# Altium footprint library Транзисторы_демо.PcbLib: 1 footprints
Each footprint in its own frame and in the unit in brackets; x right, y up, seen from the top. Pads: shape width x height; smd on the part's side, far side on the other; paste and mask are expansions set on the pad; w line width, h text height; cw(c..) or ccw(c..) is an arc to the next point about the centre after c.
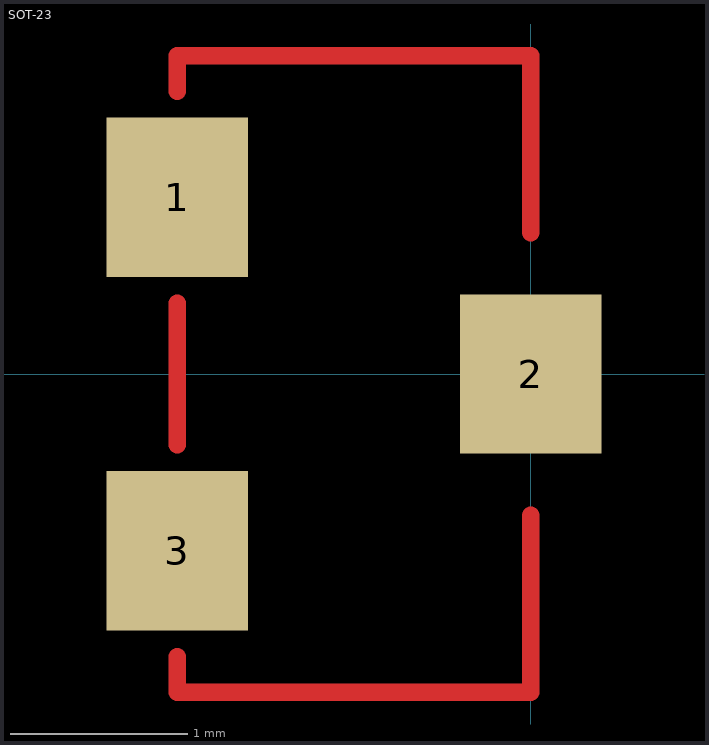
[diagram p0: the footprint, top view; thin cyan lines are the x and y axes]

## SOT-23 [mm]
pads (3):
  rect 0.8x0.9 smd: 1(-2,1) 2(0,0) 3(-2,-1)
Top Layer:
  lines w0.1: -2,-1.6 -2,-1.8 0,-1.8 0,-0.8 ; -2,-0.4 -2,0.4 ; -2,1.6 -2,1.8 0,1.8 0,0.8